# EAGLE library part LT3840 (library linear-technology)
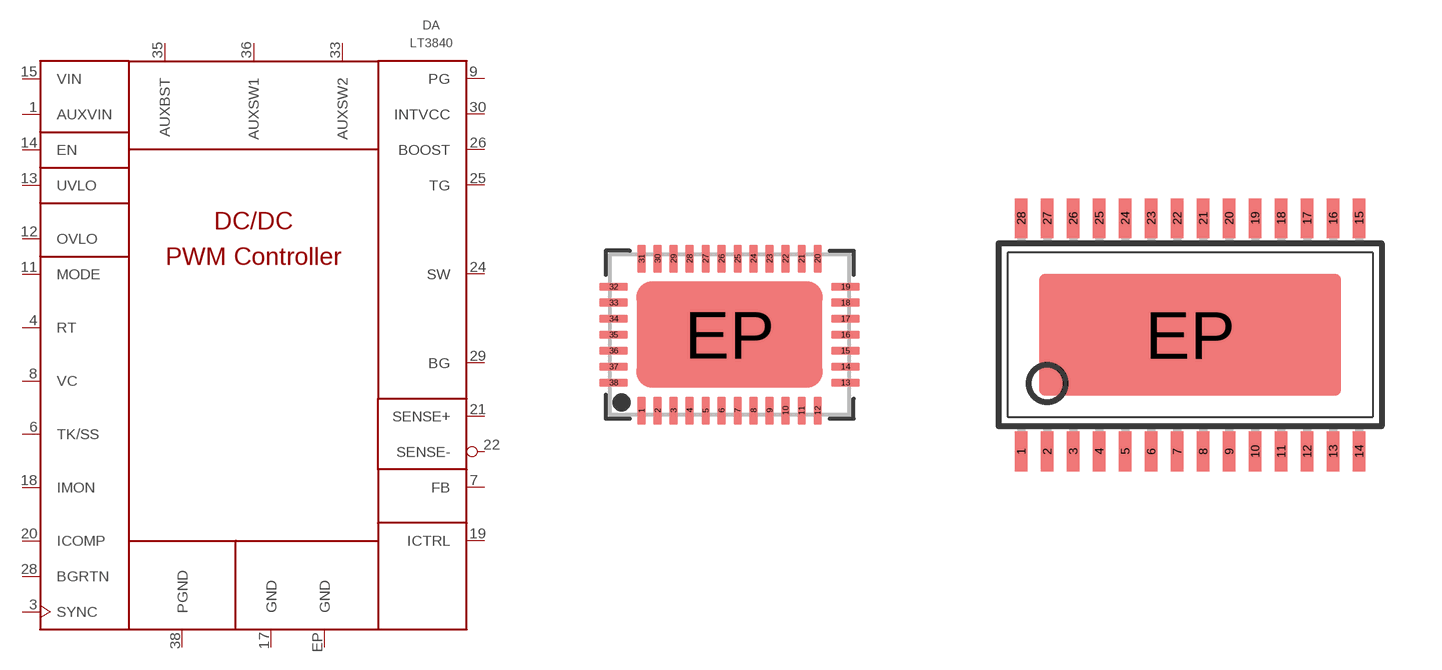
[diagram p9: symbol with the pads of 38-LQFN; footprints 38-LQFN, TSSOP28]

Designator prefix DA

## LT3840EUFE#TRPBF  [38-LQFN]
1  AUXVIN  pas
3  SYNC  in
4  RT  pas
6  TK/SS  out
7  FB  out
8  VC  out
9  PG  out
11  MODE  in
12  OVLO  pas
13  UVLO  pas
14  EN  in
15  VIN  pwr
17  GND  pwr
18  IMON  pas
19  ICTRL  out
20  ICOMP  in
21  SENSE+  in
22  SENSE-  in
24  SW  out
25  TG  out
26  BOOST  pas
28  BGRTN  out
29  BG  out
30  INTVCC  pwr
33  AUXSW2  pas
35  AUXBST  pas
36  AUXSW1  pas
38  PGND  pwr
EP  GND  pwr

## LT3840IFE#PBF  [TSSOP28]
1  AUXSW1  pas
2  PGND  pwr
3  AUXVIN  pas
4  SYNC  in
5  RT  pas
6  TK/SS  out
7  FB  out
8  VC  out
9  PG  out
10  MODE  in
11  OVLO  pas
12  UVLO  pas
13  EN  in
14  VIN  pwr
15  GND  pwr
16  IMON  pas
17  ICTRL  out
18  ICOMP  in
19  SENSE+  in
20  SENSE-  in
21  SW  out
22  TG  out
23  BOOST  pas
24  BGRTN  out
25  BG  out
26  INTVCC  pwr
27  AUXSW2  pas
28  AUXBST  pas
EP  GND  pwr

## LT3840EFE#PBF  [TSSOP28]
Pads as for TSSOP28

## LT3840HFE#PBF  [TSSOP28]
Pads as for TSSOP28

## LT3840MPFE#PBF  [TSSOP28]
Pads as for TSSOP28

## LT3840IUFE#PBF  [38-LQFN]
Pads as for 38-LQFN

## Footprint 38-LQFN (pad centres in mm)
smd 0.2 x 0.7: 1 -2.2,-1.9; 2 -1.8,-1.9; 3 -1.4,-1.9; 4 -1,-1.9; 5 -0.6,-1.9; 6 -0.2,-1.9; 7 0.2,-1.9; 8 0.6,-1.9; 9 1,-1.9; 10 1.4,-1.9; 11 1.8,-1.9; 12 2.2,-1.9; 20 2.2,1.9; 21 1.8,1.9; 22 1.4,1.9; 23 1,1.9; 24 0.6,1.9; 25 0.2,1.9; 26 -0.2,1.9; 27 -0.6,1.9; 28 -1,1.9; 29 -1.4,1.9; 30 -1.8,1.9; 31 -2.2,1.9
smd 0.7 x 0.2: 13 2.9,-1.2; 14 2.9,-0.8; 15 2.9,-0.4; 16 2.9,0; 17 2.9,0.4; 18 2.9,0.8; 19 2.9,1.2; 32 -2.9,1.2; 33 -2.9,0.8; 34 -2.9,0.4; 35 -2.9,0; 36 -2.9,-0.4; 37 -2.9,-0.8; 38 -2.9,-1.2
smd 4.65 x 2.65: EP 0,0

## Footprint TSSOP28 (pad centres in mm)
Thin Shrink Small Outline Plastic 28 MAX3223-MAX3243.pdf
smd 0.305 x 0.991: 1 -4.225,-2.918; 2 -3.575,-2.918; 3 -2.925,-2.918; 4 -2.275,-2.918; 5 -1.625,-2.918; 6 -0.975,-2.918; 7 -0.325,-2.918; 8 0.325,-2.918; 9 0.975,-2.918; 10 1.625,-2.918; 11 2.275,-2.918; 12 2.925,-2.918; 13 3.575,-2.918; 14 4.225,-2.918; 15 4.225,2.918; 16 3.575,2.918; 17 2.925,2.918; 18 2.275,2.918; 19 1.625,2.918; 20 0.975,2.918; 21 0.325,2.918; 22 -0.325,2.918; 23 -0.975,2.918; 24 -1.625,2.918; 25 -2.275,2.918; 26 -2.925,2.918; 27 -3.575,2.918; 28 -4.225,2.918
smd 7.56 x 3.05: EP 0,0